# Altium schematic symbol library CAP_220uF_RADIAL_SMD.SchLib: 1 symbol
Pins are listed as number, name and electrical type; pins without a type are passive.

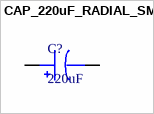
[diagram p0: symbol CAP_220uF_RADIAL_SMD]

## CAP_220uF_RADIAL_SMD
designator C?, comment 220uF
220 µF 16 V Aluminum Electrolytic Capacitors Radial, Can - SMD 2000 Hrs @ 105°C; Supplier 1: Digi-Key; Supplier Part Number 1: 732-8422-1-ND
footprint CAP_200uF_RADIAL_SMD
pins: 1, 2